# Altium schematic symbol library Diode_Bridge_Rectifier.SchLib: 1 symbol
Pins are listed as number, name and electrical type; pins without a type are passive.

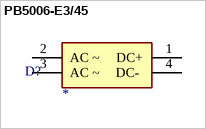
[diagram p0: symbol PB5006-E3/45]

## PB5006-E3/45
designator D?
Bridge Rectifier Single Phase Standard 600 V Through Hole isoCINK+™ PB; Manufacturer Part Number 1: *; Manufacturer 1: *; Value: *
footprint PB5006-E3/45 (Bridge Rectifier Single Phase Standard 600 V Through Hole isoCINK+™ PB)
pins: 1 DC+, 2 AC ~, 3 AC ~, 4 DC- 